# Altium footprint library QFN41P50_600X600X100L40X23T450N.PcbLib: 1 footprints
Each footprint in its own frame and in the unit in brackets; x right, y up, seen from the top. Pads: shape width x height; smd on the part's side, far side on the other; paste and mask are expansions set on the pad; w line width, h text height; cw(c..) or ccw(c..) is an arc to the next point about the centre after c.
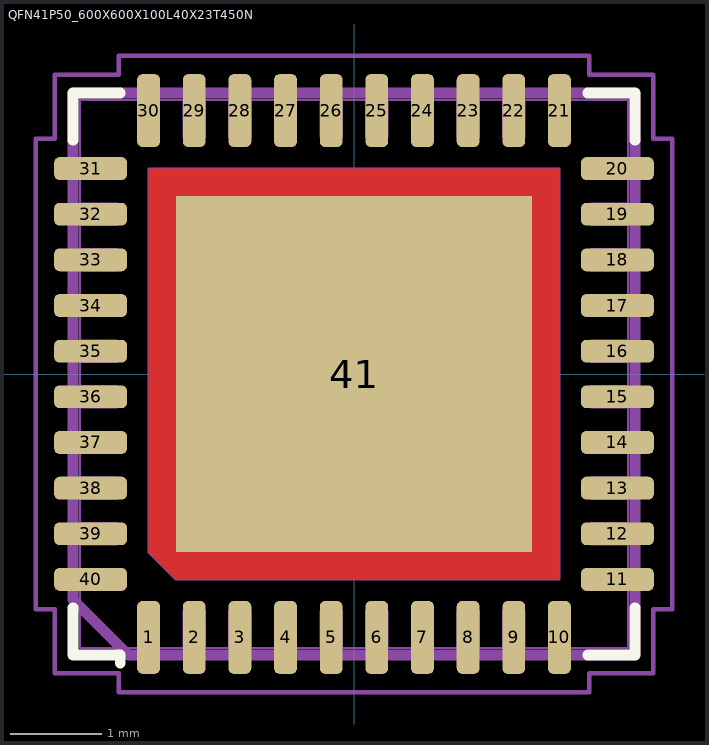
[diagram p0: the footprint, top view; thin cyan lines are the x and y axes]

## QFN41P50_600X600X100L40X23T450N [mm] "Quad Flat No-Lead (QFN with Tab), 0.50 mm pitch; square, 10 pin X 10 pin, 6.00 mm L X 6.00 mm W X 1.00 mm H body"
height 1
pads (41):
  rrect48% 0.25x0.8 smd: 1(-2.25,-2.885) 2(-1.75,-2.885) 3(-1.25,-2.885) 4(-0.75,-2.885) 5(-0.25,-2.885) 6(0.25,-2.885) 7(0.75,-2.885) 8(1.25,-2.885) 9(1.75,-2.885) 10(2.25,-2.885) 21(2.25,2.885) 22(1.75,2.885) 23(1.25,2.885) 24(0.75,2.885) 25(0.25,2.885) 26(-0.25,2.885) 27(-0.75,2.885) 28(-1.25,2.885) 29(-1.75,2.885) 30(-2.25,2.885)
  rrect48% 0.8x0.25 smd: 11(2.885,-2.25) 12(2.885,-1.75) 13(2.885,-1.25) 14(2.885,-0.75) 15(2.885,-0.25) 16(2.885,0.25) 17(2.885,0.75) 18(2.885,1.25) 19(2.885,1.75) 20(2.885,2.25) 31(-2.885,2.25) 32(-2.885,1.75) 33(-2.885,1.25) 34(-2.885,0.75) 35(-2.885,0.25) 36(-2.885,-0.25) 37(-2.885,-0.75) 38(-2.885,-1.25) 39(-2.885,-1.75) 40(-2.885,-2.25)
  rect 3.9x3.9 smd paste-3.9 mask-3.9: 41(0,0)
Top Layer:
  region: 2.25,-2.25 -1.95,-2.25 -2.25,-1.95 -2.25,2.25 2.25,2.25
Top Overlay:
  lines w0.12: -3.08,-2.56 -3.08,-3.08 -2.56,-3.08 -2.56,-3.165 ; -3.08,2.56 -3.08,3.08 -2.56,3.08 ; 2.56,-3.08 3.08,-3.08 3.08,-2.56 ; 2.56,3.08 3.08,3.08 3.08,2.56
Top Paste:
  region: 1.92,-1.92 0.33,-1.92 0.33,-0.33 1.92,-0.33
  region: 1.92,0.33 0.33,0.33 0.33,1.92 1.92,1.92
  region: -0.33,-1.92 -1.92,-1.92 -1.92,-0.33 -0.33,-0.33
  region: -0.33,0.33 -1.92,0.33 -1.92,1.92 -0.33,1.92
Top Solder:
  region: 2.25,-2.25 -1.95,-2.25 -2.25,-1.95 -2.25,2.25 2.25,2.25
Mechanical 3:
  lines w0.12: -3.08,-2.47 -2.47,-3.08 3.08,-3.08 3.08,3.08 -3.08,3.08 -3.08,-2.47
Mechanical 5:
  drawing of 169 lines, arcs and shapes, not listed
Mechanical 7:
  circle w0.05: c0,0 r0.25
  lines w0.05: -0.35,0 0.35,0 ; 0,-0.35 0,0.35 ; -3.485,-2.575 -3.485,2.575 -3.28,2.575 -3.28,3.28 -2.575,3.28 -2.575,3.485 2.575,3.485 2.575,3.28 3.28,3.28 3.28,2.575 3.485,2.575 3.485,-2.575 3.28,-2.575 3.28,-3.28 2.575,-3.28 2.575,-3.485 -2.575,-3.485 -2.575,-3.28 -3.28,-3.28 -3.28,-2.575 -3.485,-2.575
Mechanical 9:
  text "'.Designator'" at -5.355,-0.779 h1
3D body "QFN41P50_600X600X100L40X23T450.STEP": height 1, standoff 0, extent -3.05,-3.05 3.05,3.05
3D body: height 0.03, standoff 0, extent -3.475,-3.475 3.475,3.5
3D body: height 1.04, standoff 0, extent -3.485,-3.485 3.485,3.485